# Altium integrated library ESS.IntLib: 1 symbol
Pins are listed as number, name and electrical type; pins without a type are passive.

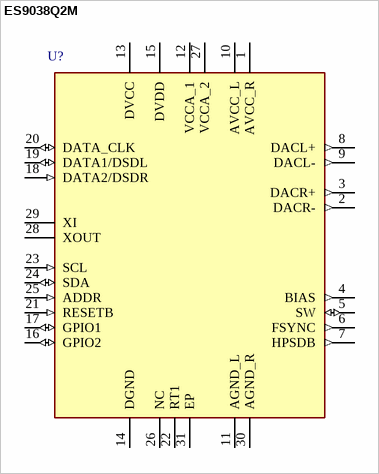
[diagram p0: symbol ES9038Q2M]

## ES9038Q2M
designator U?
32-Bit Stereo Low Power Audio DAC
footprint QFN30-L
footprint QFN30-M
pins: 1 AVCC_R (power), 2 DACR- (out), 3 DACR+ (out), 4 BIAS (out), 5 SW (io), 6 FSYNC (out), 7 HPSDB (out), 8 DACL+ (out), 9 DACL- (out), 10 AVCC_L (power), 11 AGND_L, 12 VCCA_1 (power), 13 DVCC (power), 14 DGND, 15 DVDD (power), 16 GPIO2 (io), 17 GPIO1 (io), 18 DATA2/DSDR (in), 19 DATA1/DSDL (io), 20 DATA_CLK (io), 21 RESETB (in), 22 RT1, 23 SCL (in), 24 SDA (io), 25 ADDR (in), 26 NC, 27 VCCA_2 (power), 28 XOUT, 29 XI, 30 AGND_R, 31 EP